# Altium schematic symbol library WR-NPC2.SchLib: 28 symbols
Pins are listed as number, name and electrical type; pins without a type are passive.

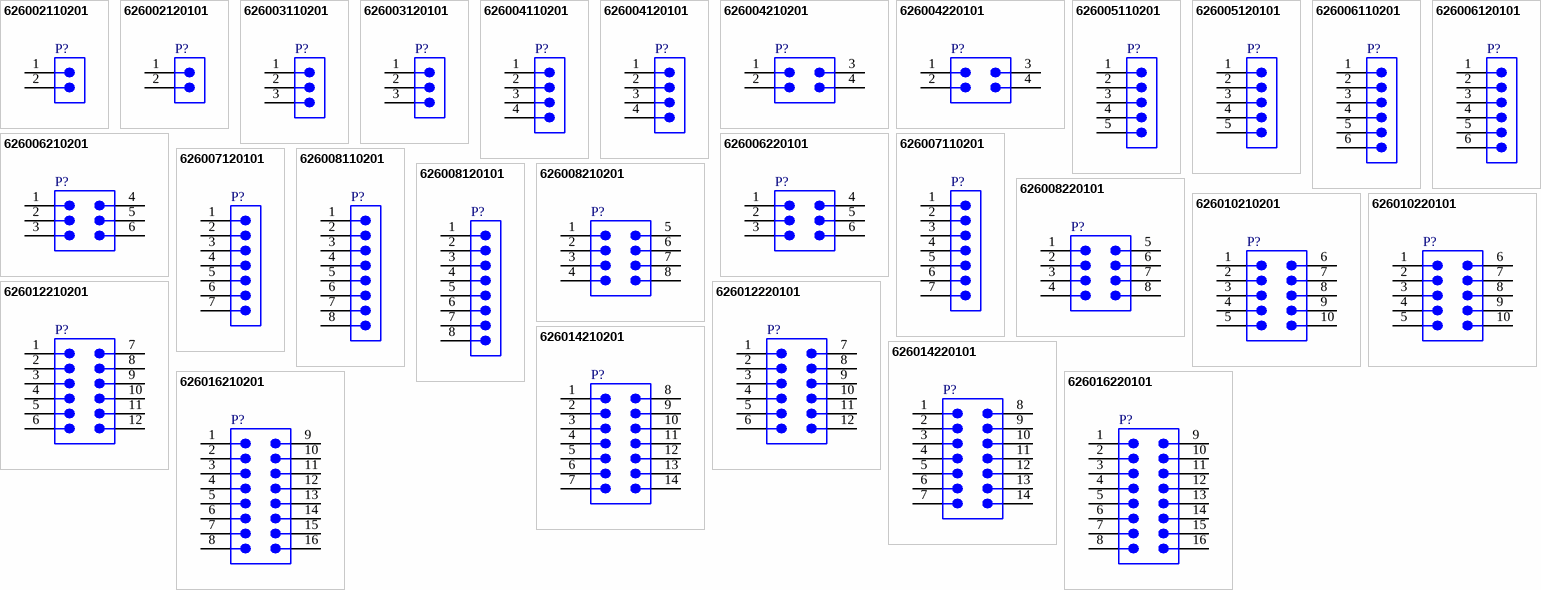
[diagram p0: symbols 626002110201 to 626016220101]

## 626002110201
designator P?  (value not drawn)
WR-NPC2 2.50 mm Male Header Single Row Right Angled with Snap-in Plastic Pegs, THT, pitch 2.5mm, 2pins; Manufacturer: Wurth Elektronik; Rated Current: 6.5A; Contact Resistance: 10mOhm; Working Voltage: 250V (AC); Manufacturer Part Number: 626002110201; Category: Wire-to-Board Connector; Match Code: WR-NPC2; ComponentLink1Description: Website Link; ComponentLink1URL: https://www.we-online.com/redexpert/article/626002110201?ad; ComponentLink2Description: Datasheet Link; ComponentLink2URL: https://www.we-online.com/redexpert/spec/626002110201?ad; Mount: Through Hole; Operating Temperature Min: -40°C; Operating Temperature Max: 105°C; Packaging: Tray; Gender: Male; Number of Pins: 2; Number of Rows: 1; Orientation: Right Angled; Lead Pitch: 2.5mm
footprint 626002110201
pins: 1, 2

## 626002120101
designator P?  (value not drawn)
WR-NPC2 2.50 mm Male Header Single Row Vertical, THT, pitch 2.5mm, 2pins; Manufacturer: Wurth Elektronik; Rated Current: 6.5A; Contact Resistance: 10mOhm; Working Voltage: 250V (AC); Manufacturer Part Number: 626002120101; Category: Wire-to-Board Connector; Match Code: WR-NPC2; ComponentLink1Description: Website Link; ComponentLink1URL: https://www.we-online.com/redexpert/article/626002120101?ad; ComponentLink2Description: Datasheet Link; ComponentLink2URL: https://www.we-online.com/redexpert/spec/626002120101?ad; Mount: Through Hole; Operating Temperature Min: -40°C; Operating Temperature Max: 105°C; Packaging: Tray; Gender: Male; Number of Pins: 2; Number of Rows: 1; Orientation: Vertical; Lead Pitch: 2.5mm
footprint 626002120101
pins: 1, 2

## 626003110201
designator P?  (value not drawn)
WR-NPC2 2.50 mm Male Header Single Row Right Angled with Snap-in Plastic Pegs, THT, pitch 2.5mm, 3pins; Manufacturer: Wurth Elektronik; Rated Current: 6.5A; Contact Resistance: 10mOhm; Working Voltage: 250V (AC); Manufacturer Part Number: 626003110201; Category: Wire-to-Board Connector; Match Code: WR-NPC2; ComponentLink1Description: Website Link; ComponentLink1URL: https://www.we-online.com/redexpert/article/626003110201?ad; ComponentLink2Description: Datasheet Link; ComponentLink2URL: https://www.we-online.com/redexpert/spec/626003110201?ad; Mount: Through Hole; Operating Temperature Min: -40°C; Operating Temperature Max: 105°C; Packaging: Tray; Gender: Male; Number of Pins: 3; Number of Rows: 1; Orientation: Right Angled; Lead Pitch: 2.5mm
footprint 626003110201
pins: 1, 2, 3

## 626003120101
designator P?  (value not drawn)
WR-NPC2 2.50 mm Male Header Single Row Vertical, THT, pitch 2.5mm, 3pins; Manufacturer: Wurth Elektronik; Rated Current: 6.5A; Contact Resistance: 10mOhm; Working Voltage: 250V (AC); Manufacturer Part Number: 626003120101; Category: Wire-to-Board Connector; Match Code: WR-NPC2; ComponentLink1Description: Website Link; ComponentLink1URL: https://www.we-online.com/redexpert/article/626003120101?ad; ComponentLink2Description: Datasheet Link; ComponentLink2URL: https://www.we-online.com/redexpert/spec/626003120101?ad; Mount: Through Hole; Operating Temperature Min: -40°C; Operating Temperature Max: 105°C; Packaging: Tray; Gender: Male; Number of Pins: 3; Number of Rows: 1; Orientation: Vertical; Lead Pitch: 2.5mm
footprint 626003120101
pins: 1, 2, 3

## 626004110201
designator P?  (value not drawn)
WR-NPC2 2.50 mm Male Header Single Row Right Angled with Snap-in Plastic Pegs, THT, pitch 2.5mm, 4pins; Manufacturer: Wurth Elektronik; Rated Current: 6.5A; Contact Resistance: 10mOhm; Working Voltage: 250V (AC); Manufacturer Part Number: 626004110201; Category: Wire-to-Board Connector; Match Code: WR-NPC2; ComponentLink1Description: Website Link; ComponentLink1URL: https://www.we-online.com/redexpert/article/626004110201?ad; ComponentLink2Description: Datasheet Link; ComponentLink2URL: https://www.we-online.com/redexpert/spec/626004110201?ad; Mount: Through Hole; Operating Temperature Min: -40°C; Operating Temperature Max: 105°C; Packaging: Tray; Gender: Male; Number of Pins: 4; Number of Rows: 1; Orientation: Right Angled; Lead Pitch: 2.5mm
footprint 626004110201
pins: 1, 2, 3, 4

## 626004120101
designator P?  (value not drawn)
WR-NPC2 2.50 mm Male Header Single Row Vertical, THT, pitch 2.5mm, 4pins; Manufacturer: Wurth Elektronik; Rated Current: 6.5A; Contact Resistance: 10mOhm; Working Voltage: 250V (AC); Manufacturer Part Number: 626004120101; Category: Wire-to-Board Connector; Match Code: WR-NPC2; ComponentLink1Description: Website Link; ComponentLink1URL: https://www.we-online.com/redexpert/article/626004120101?ad; ComponentLink2Description: Datasheet Link; ComponentLink2URL: https://www.we-online.com/redexpert/spec/626004120101?ad; Mount: Through Hole; Operating Temperature Min: -40°C; Operating Temperature Max: 105°C; Packaging: Tray; Gender: Male; Number of Pins: 4; Number of Rows: 1; Orientation: Vertical; Lead Pitch: 2.5mm
footprint 626004120101
pins: 1, 2, 3, 4

## 626004210201
designator P?  (value not drawn)
WR NPC2 2.50 mm Male Header Dual Row Right Angled with Snap-in Plastic Pegs, THT, pitch 2.5mm, 4pins; Manufacturer: Wurth Elektronik; Match Code: WR-NPC2; Rated Current: 6.5A; Contact Resistance: 10mOhm; Working Voltage: 250V (AC); Manufacturer Part Number: 626004210201; Category: Wire-to-Board Connector; ComponentLink1Description: Website Link; ComponentLink1URL: https://www.we-online.com/redexpert/article/626004210201?ad; ComponentLink2Description: Datasheet Link; ComponentLink2URL: https://www.we-online.com/redexpert/spec/626004210201?ad; Mount: Through Hole; Operating Temperature Min: -40°C; Operating Temperature Max: 105°C; Packaging: Tray; Gender: Male; Number of Pins: 4; Number of Rows: 2; Orientation: Right Angled; Lead Pitch: 2.5mm
footprint 626004210201
pins: 1, 2, 3, 4

## 626004220101
designator P?  (value not drawn)
WR NPC2 2.50 mm Male Header Dual Row Vertical, THT, pitch 2.5mm, 4pins; Manufacturer: Wurth Elektronik; Match Code: WR-NPC2; Rated Current: 6.5A; Contact Resistance: 10mOhm; Working Voltage: 250V (AC); Manufacturer Part Number: 626004220101; Category: Wire-to-Board Connector; ComponentLink1Description: Website Link; ComponentLink1URL: https://www.we-online.com/redexpert/article/626004220101?ad; ComponentLink2Description: Datasheet Link; ComponentLink2URL: https://www.we-online.com/redexpert/spec/626004220101?ad; Mount: Through Hole; Operating Temperature Min: -40°C; Operating Temperature Max: 105°C; Packaging: Tray; Gender: Male; Number of Pins: 4; Number of Rows: 2; Orientation: Vertical; Lead Pitch: 2.5mm
footprint 626004220101
pins: 1, 2, 3, 4

## 626005110201
designator P?  (value not drawn)
WR-NPC2 2.50 mm Male Header Single Row Right Angled with Snap-in Plastic Pegs, THT, pitch 2.5mm, 5pins; Manufacturer: Wurth Elektronik; Rated Current: 6.5A; Contact Resistance: 10mOhm; Working Voltage: 250V (AC); Manufacturer Part Number: 626005110201; Category: Wire-to-Board Connector; Match Code: WR-NPC2; ComponentLink1Description: Website Link; ComponentLink1URL: https://www.we-online.com/redexpert/article/626005110201?ad; ComponentLink2Description: Datasheet Link; ComponentLink2URL: https://www.we-online.com/redexpert/spec/626005110201?ad; Mount: Through Hole; Operating Temperature Min: -40°C; Operating Temperature Max: 105°C; Packaging: Tray; Gender: Male; Number of Pins: 5; Number of Rows: 1; Orientation: Right Angled; Lead Pitch: 2.5mm
footprint 626005110201
pins: 1, 2, 3, 4, 5

## 626005120101
designator P?  (value not drawn)
WR-NPC2 2.50 mm Male Header Single Row Vertical, THT, pitch 2.5mm, 5pins; Manufacturer: Wurth Elektronik; Rated Current: 6.5A; Contact Resistance: 10mOhm; Working Voltage: 250V (AC); Manufacturer Part Number: 626005120101; Category: Wire-to-Board Connector; Match Code: WR-NPC2; ComponentLink1Description: Website Link; ComponentLink1URL: https://www.we-online.com/redexpert/article/626005120101?ad; ComponentLink2Description: Datasheet Link; ComponentLink2URL: https://www.we-online.com/redexpert/spec/626005120101?ad; Mount: Through Hole; Operating Temperature Min: -40°C; Operating Temperature Max: 105°C; Packaging: Tray; Gender: Male; Number of Pins: 5; Number of Rows: 1; Orientation: Vertical; Lead Pitch: 2.5mm
footprint 626005120101
pins: 1, 2, 3, 4, 5

## 626006110201
designator P?  (value not drawn)
WR-NPC2 2.50 mm Male Header Single Row Right Angled with Snap-in Plastic Pegs, THT, pitch 2.5mm, 6pins; Manufacturer: Wurth Elektronik; Rated Current: 6.5A; Contact Resistance: 10mOhm; Working Voltage: 250V (AC); Manufacturer Part Number: 626006110201; Category: Wire-to-Board Connector; Match Code: WR-NPC2; ComponentLink1Description: Website Link; ComponentLink1URL: https://www.we-online.com/redexpert/article/626006110201?ad; ComponentLink2Description: Datasheet Link; ComponentLink2URL: https://www.we-online.com/redexpert/spec/626006110201?ad; Mount: Through Hole; Operating Temperature Min: -40°C; Operating Temperature Max: 105°C; Packaging: Tray; Gender: Male; Number of Pins: 6; Number of Rows: 1; Orientation: Right Angled; Lead Pitch: 2.5mm
footprint 626006110201
pins: 1, 2, 3, 4, 5, 6

## 626006120101
designator P?  (value not drawn)
WR-NPC2 2.50 mm Male Header Single Row Vertical, THT, pitch 2.5mm, 6pins; Manufacturer: Wurth Elektronik; Rated Current: 6.5A; Contact Resistance: 10mOhm; Working Voltage: 250V (AC); Manufacturer Part Number: 626006120101; Category: Wire-to-Board Connector; Match Code: WR-NPC2; ComponentLink1Description: Website Link; ComponentLink1URL: https://www.we-online.com/redexpert/article/626006120101?ad; ComponentLink2Description: Datasheet Link; ComponentLink2URL: https://www.we-online.com/redexpert/spec/626006120101?ad; Mount: Through Hole; Operating Temperature Min: -40°C; Operating Temperature Max: 105°C; Packaging: Tray; Gender: Male; Number of Pins: 6; Number of Rows: 1; Orientation: Vertical; Lead Pitch: 2.5mm
footprint 626006120101
pins: 1, 2, 3, 4, 5, 6

## 626006210201
designator P?  (value not drawn)
WR NPC2 2.50 mm Male Header Dual Row Right Angled with Snap-in Plastic Pegs, THT, pitch 2.5mm, 6pins; Manufacturer: Wurth Elektronik; Match Code: WR-NPC2; Rated Current: 6.5A; Contact Resistance: 10mOhm; Working Voltage: 250V (AC); Manufacturer Part Number: 626006210201; Category: Wire-to-Board Connector; ComponentLink1Description: Website Link; ComponentLink1URL: https://www.we-online.com/redexpert/article/626006210201?ad; ComponentLink2Description: Datasheet Link; ComponentLink2URL: https://www.we-online.com/redexpert/spec/626006210201?ad; Mount: Through Hole; Operating Temperature Min: -40°C; Operating Temperature Max: 105°C; Packaging: Tray; Gender: Male; Number of Pins: 6; Number of Rows: 2; Orientation: Right Angled; Lead Pitch: 2.5mm
footprint 626006210201
pins: 1, 2, 3, 4, 5, 6

## 626006220101
designator P?  (value not drawn)
WR NPC2 2.50 mm Male Header Dual Row Vertical, THT, pitch 2.5mm, 6pins; Manufacturer: Wurth Elektronik; Match Code: WR-NPC2; Rated Current: 6.5A; Contact Resistance: 10mOhm; Working Voltage: 250V (AC); Manufacturer Part Number: 626006220101; Category: Wire-to-Board Connector; ComponentLink1Description: Website Link; ComponentLink1URL: https://www.we-online.com/redexpert/article/626006220101?ad; ComponentLink2Description: Datasheet Link; ComponentLink2URL: https://www.we-online.com/redexpert/spec/626006220101?ad; Mount: Through Hole; Operating Temperature Min: -40°C; Operating Temperature Max: 105°C; Packaging: Tray; Gender: Male; Number of Pins: 6; Number of Rows: 2; Orientation: Vertical; Lead Pitch: 2.5mm
footprint 626006220101
pins: 1, 2, 3, 4, 5, 6

## 626007110201
designator P?  (value not drawn)
WR-NPC2 2.50 mm Male Header Single Row Right Angled with Snap-in Plastic Pegs, THT, pitch 2.5mm, 7pins; Manufacturer: Wurth Elektronik; Rated Current: 6.5A; Contact Resistance: 10mOhm; Working Voltage: 250V (AC); Manufacturer Part Number: 626007110201; Category: Wire-to-Board Connector; Match Code: WR-NPC2; ComponentLink1Description: Website Link; ComponentLink1URL: https://www.we-online.com/redexpert/article/626007110201?ad; ComponentLink2Description: Datasheet Link; ComponentLink2URL: https://www.we-online.com/redexpert/spec/626007110201?ad; Mount: Through Hole; Operating Temperature Min: -40°C; Operating Temperature Max: 105°C; Packaging: Tray; Gender: Male; Number of Pins: 7; Number of Rows: 1; Orientation: Right Angled; Lead Pitch: 2.5mm
footprint 626007110201
pins: 1, 2, 3, 4, 5, 6, 7

## 626007120101
designator P?  (value not drawn)
WR-NPC2 2.50 mm Male Header Single Row Vertical, THT, pitch 2.5mm, 7pins; Manufacturer: Wurth Elektronik; Rated Current: 6.5A; Contact Resistance: 10mOhm; Working Voltage: 250V (AC); Manufacturer Part Number: 626007120101; Category: Wire-to-Board Connector; Match Code: WR-NPC2; ComponentLink1Description: Website Link; ComponentLink1URL: https://www.we-online.com/redexpert/article/626007120101?ad; ComponentLink2Description: Datasheet Link; ComponentLink2URL: https://www.we-online.com/redexpert/spec/626007120101?ad; Mount: Through Hole; Operating Temperature Min: -40°C; Operating Temperature Max: 105°C; Packaging: Tray; Gender: Male; Number of Pins: 7; Number of Rows: 1; Orientation: Vertical; Lead Pitch: 2.5mm
footprint 626007120101
pins: 1, 2, 3, 4, 5, 6, 7

## 626008110201
designator P?  (value not drawn)
WR-NPC2 2.50 mm Male Header Single Row Right Angled with Snap-in Plastic Pegs, THT, pitch 2.5mm, 8pins; Manufacturer: Wurth Elektronik; Rated Current: 6.5A; Contact Resistance: 10mOhm; Working Voltage: 250V (AC); Manufacturer Part Number: 626008110201; Category: Wire-to-Board Connector; Match Code: WR-NPC2; ComponentLink1Description: Website Link; ComponentLink1URL: https://www.we-online.com/redexpert/article/626008110201?ad; ComponentLink2Description: Datasheet Link; ComponentLink2URL: https://www.we-online.com/redexpert/spec/626008110201?ad; Mount: Through Hole; Operating Temperature Min: -40°C; Operating Temperature Max: 105°C; Packaging: Tray; Gender: Male; Number of Pins: 8; Number of Rows: 1; Orientation: Right Angled; Lead Pitch: 2.5mm
footprint 626008110201
pins: 1, 2, 3, 4, 5, 6, 7, 8

## 626008120101
designator P?  (value not drawn)
WR-NPC2 2.50 mm Male Header Single Row Vertical, THT, pitch 2.5mm, 8pins; Manufacturer: Wurth Elektronik; Rated Current: 6.5A; Contact Resistance: 10mOhm; Working Voltage: 250V (AC); Manufacturer Part Number: 626008120101; Category: Wire-to-Board Connector; Match Code: WR-NPC2; ComponentLink1Description: Website Link; ComponentLink1URL: https://www.we-online.com/redexpert/article/626008120101?ad; ComponentLink2Description: Datasheet Link; ComponentLink2URL: https://www.we-online.com/redexpert/spec/626008120101?ad; Mount: Through Hole; Operating Temperature Min: -40°C; Operating Temperature Max: 105°C; Packaging: Tray; Gender: Male; Number of Pins: 8; Number of Rows: 1; Orientation: Vertical; Lead Pitch: 2.5mm
footprint 626008120101
pins: 1, 2, 3, 4, 5, 6, 7, 8

## 626008210201
designator P?  (value not drawn)
WR NPC2 2.50 mm Male Header Dual Row Right Angled with Snap-in Plastic Pegs, THT, pitch 2.5mm, 8pins; Manufacturer: Wurth Elektronik; Match Code: WR-NPC2; Rated Current: 6.5A; Contact Resistance: 10mOhm; Working Voltage: 250V (AC); Manufacturer Part Number: 626008210201; Category: Wire-to-Board Connector; ComponentLink1Description: Website Link; ComponentLink1URL: https://www.we-online.com/redexpert/article/626008210201?ad; ComponentLink2Description: Datasheet Link; ComponentLink2URL: https://www.we-online.com/redexpert/spec/626008210201?ad; Mount: Through Hole; Operating Temperature Min: -40°C; Operating Temperature Max: 105°C; Packaging: Tray; Gender: Male; Number of Pins: 8; Number of Rows: 2; Orientation: Right Angled; Lead Pitch: 2.5mm
footprint 626008210201
pins: 1, 2, 3, 4, 5, 6, 7, 8

## 626008220101
designator P?  (value not drawn)
WR NPC2 2.50 mm Male Header Dual Row Vertical, THT, pitch 2.5mm, 8pins; Manufacturer: Wurth Elektronik; Match Code: WR-NPC2; Rated Current: 6.5A; Contact Resistance: 10mOhm; Working Voltage: 250V (AC); Manufacturer Part Number: 626008220101; Category: Wire-to-Board Connector; ComponentLink1Description: Website Link; ComponentLink1URL: https://www.we-online.com/redexpert/article/626008220101?ad; ComponentLink2Description: Datasheet Link; ComponentLink2URL: https://www.we-online.com/redexpert/spec/626008220101?ad; Mount: Through Hole; Operating Temperature Min: -40°C; Operating Temperature Max: 105°C; Packaging: Tray; Gender: Male; Number of Pins: 8; Number of Rows: 2; Orientation: Vertical; Lead Pitch: 2.5mm
footprint 626008220101
pins: 1, 2, 3, 4, 5, 6, 7, 8

## 626010210201
designator P?  (value not drawn)
WR NPC2 2.50 mm Male Header Dual Row Right Angled with Snap-in Plastic Pegs, THT, pitch 2.5mm, 10pins; Manufacturer: Wurth Elektronik; Match Code: WR-NPC2; Rated Current: 6.5A; Contact Resistance: 10mOhm; Working Voltage: 250V (AC); Manufacturer Part Number: 626010210201; Category: Wire-to-Board Connector; ComponentLink1Description: Website Link; ComponentLink1URL: https://www.we-online.com/redexpert/article/626010210201?ad; ComponentLink2Description: Datasheet Link; ComponentLink2URL: https://www.we-online.com/redexpert/spec/626010210201?ad; Mount: Through Hole; Operating Temperature Min: -40°C; Operating Temperature Max: 105°C; Packaging: Tray; Gender: Male; Number of Pins: 10; Number of Rows: 2; Orientation: Right Angled; Lead Pitch: 2.5mm
footprint 626010210201
pins: 1, 2, 3, 4, 5, 6, 7, 8, 9, 10

## 626010220101
designator P?  (value not drawn)
WR NPC2 2.50 mm Male Header Dual Row Vertical, THT, pitch 2.5mm, 10pins; Manufacturer: Wurth Elektronik; Match Code: WR-NPC2; Rated Current: 6.5A; Contact Resistance: 10mOhm; Working Voltage: 250V (AC); Manufacturer Part Number: 626010220101; Category: Wire-to-Board Connector; ComponentLink1Description: Website Link; ComponentLink1URL: https://www.we-online.com/redexpert/article/626010220101?ad; ComponentLink2Description: Datasheet Link; ComponentLink2URL: https://www.we-online.com/redexpert/spec/626010220101?ad; Mount: Through Hole; Operating Temperature Min: -40°C; Operating Temperature Max: 105°C; Packaging: Tray; Gender: Male; Number of Pins: 10; Number of Rows: 2; Orientation: Vertical; Lead Pitch: 2.5mm
footprint 626010220101
pins: 1, 2, 3, 4, 5, 6, 7, 8, 9, 10

## 626012210201
designator P?  (value not drawn)
WR NPC2 2.50 mm Male Header Dual Row Right Angled with Snap-in Plastic Pegs, THT, pitch 2.5mm, 12pins; Manufacturer: Wurth Elektronik; Match Code: WR-NPC2; Rated Current: 6.5A; Contact Resistance: 10mOhm; Working Voltage: 250V (AC); Manufacturer Part Number: 626012210201; Category: Wire-to-Board Connector; ComponentLink1Description: Website Link; ComponentLink1URL: https://www.we-online.com/redexpert/article/626012210201?ad; ComponentLink2Description: Datasheet Link; ComponentLink2URL: https://www.we-online.com/redexpert/spec/626012210201?ad; Mount: Through Hole; Operating Temperature Min: -40°C; Operating Temperature Max: 105°C; Packaging: Tray; Gender: Male; Number of Pins: 12; Number of Rows: 2; Orientation: Right Angled; Lead Pitch: 2.5mm
footprint 626012210201
pins: 1, 2, 3, 4, 5, 6, 7, 8, 9, 10, 11, 12

## 626012220101
designator P?  (value not drawn)
WR NPC2 2.50 mm Male Header Dual Row Vertical, THT, pitch 2.5mm, 12pins; Manufacturer: Wurth Elektronik; Match Code: WR-NPC2; Rated Current: 6.5A; Contact Resistance: 10mOhm; Working Voltage: 250V (AC); Manufacturer Part Number: 626012220101; Category: Wire-to-Board Connector; ComponentLink1Description: Website Link; ComponentLink1URL: https://www.we-online.com/redexpert/article/626012220101?ad; ComponentLink2Description: Datasheet Link; ComponentLink2URL: https://www.we-online.com/redexpert/spec/626012220101?ad; Mount: Through Hole; Operating Temperature Min: -40°C; Operating Temperature Max: 105°C; Packaging: Tray; Gender: Male; Number of Pins: 12; Number of Rows: 2; Orientation: Vertical; Lead Pitch: 2.5mm
footprint 626012220101
pins: 1, 2, 3, 4, 5, 6, 7, 8, 9, 10, 11, 12

## 626014210201
designator P?  (value not drawn)
WR NPC2 2.50 mm Male Header Dual Row Right Angled with Snap-in Plastic Pegs, THT, pitch 2.5mm, 14pins; Manufacturer: Wurth Elektronik; Match Code: WR-NPC2; Rated Current: 6.5A; Contact Resistance: 10mOhm; Working Voltage: 250V (AC); Manufacturer Part Number: 626014210201; Category: Wire-to-Board Connector; ComponentLink1Description: Website Link; ComponentLink1URL: https://www.we-online.com/redexpert/article/626014210201?ad; ComponentLink2Description: Datasheet Link; ComponentLink2URL: https://www.we-online.com/redexpert/spec/626014210201?ad; Mount: Through Hole; Operating Temperature Min: -40°C; Operating Temperature Max: 105°C; Packaging: Tray; Gender: Male; Number of Pins: 14; Number of Rows: 2; Orientation: Right Angled; Lead Pitch: 2.5mm
footprint 626014210201
pins: 1, 2, 3, 4, 5, 6, 7, 8, 9, 10, 11, 12, 13, 14

## 626014220101
designator P?  (value not drawn)
WR NPC2 2.50 mm Male Header Dual Row Vertical, THT, pitch 2.5mm, 14pins; Manufacturer: Wurth Elektronik; Match Code: WR-NPC2; Rated Current: 6.5A; Contact Resistance: 10mOhm; Working Voltage: 250V (AC); Manufacturer Part Number: 626014220101; Category: Wire-to-Board Connector; ComponentLink1Description: Website Link; ComponentLink1URL: https://www.we-online.com/redexpert/article/626014220101?ad; ComponentLink2Description: Datasheet Link; ComponentLink2URL: https://www.we-online.com/redexpert/spec/626014220101?ad; Mount: Through Hole; Operating Temperature Min: -40°C; Operating Temperature Max: 105°C; Packaging: Tray; Gender: Male; Number of Pins: 14; Number of Rows: 2; Orientation: Vertical; Lead Pitch: 2.5mm
footprint 626014220101
pins: 1, 2, 3, 4, 5, 6, 7, 8, 9, 10, 11, 12, 13, 14

## 626016210201
designator P?  (value not drawn)
WR NPC2 2.50 mm Male Header Dual Row Right Angled with Snap-in Plastic Pegs, THT, pitch 2.5mm, 16pins; Manufacturer: Wurth Elektronik; Match Code: WR-NPC2; Rated Current: 6.5A; Contact Resistance: 10mOhm; Working Voltage: 250V (AC); Manufacturer Part Number: 626016210201; Category: Wire-to-Board Connector; ComponentLink1Description: Website Link; ComponentLink1URL: https://www.we-online.com/redexpert/article/626016210201?ad; ComponentLink2Description: Datasheet Link; ComponentLink2URL: https://www.we-online.com/redexpert/spec/626016210201?ad; Mount: Through Hole; Operating Temperature Min: -40°C; Operating Temperature Max: 105°C; Packaging: Tray; Gender: Male; Number of Pins: 16; Number of Rows: 2; Orientation: Right Angled; Lead Pitch: 2.5mm
footprint 626016210201
pins: 1, 2, 3, 4, 5, 6, 7, 8, 9, 10, 11, 12, 13, 14, 15, 16

## 626016220101
designator P?  (value not drawn)
WR NPC2 2.50 mm Male Header Dual Row Vertical, THT, pitch 2.5mm, 16pins; Manufacturer: Wurth Elektronik; Match Code: WR-NPC2; Rated Current: 6.5A; Contact Resistance: 10mOhm; Working Voltage: 250V (AC); Manufacturer Part Number: 626016220101; Category: Wire-to-Board Connector; ComponentLink1Description: Website Link; ComponentLink1URL: https://www.we-online.com/redexpert/article/626016220101?ad; ComponentLink2Description: Datasheet Link; ComponentLink2URL: https://www.we-online.com/redexpert/spec/626016220101?ad; Mount: Through Hole; Operating Temperature Min: -40°C; Operating Temperature Max: 105°C; Packaging: Tray; Gender: Male; Number of Pins: 16; Number of Rows: 2; Orientation: Vertical; Lead Pitch: 2.5mm
footprint 626016220101
pins: 1, 2, 3, 4, 5, 6, 7, 8, 9, 10, 11, 12, 13, 14, 15, 16